# EAGLE library part XBEE (library IC & Transistor)
XBEE Module
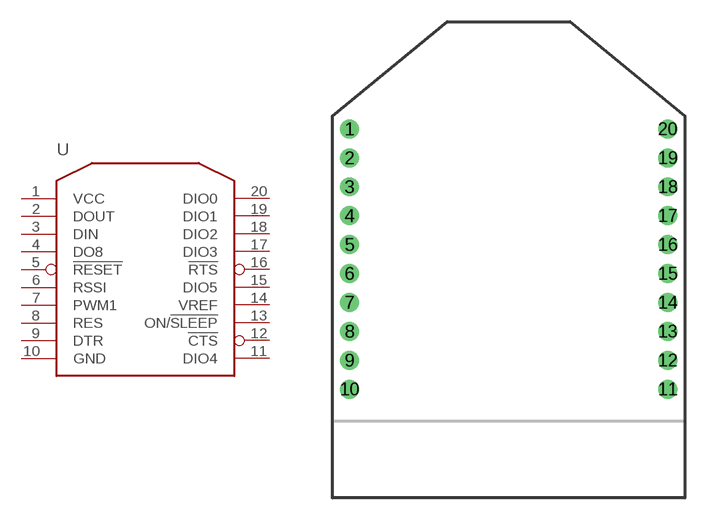
[diagram p15: symbol with the pads of XBEEPRO; footprint XBEEPRO]

Designator prefix U

## XBEE_(PRO) (CYTRON-PC: XBEE-PRO; DESC: XBee Pro Module; MF: DIGI)  [XBEEPRO]
1  VCC
2  DOUT
3  DIN
4  DO8
5  !RESET
6  RSSI
7  PWM1
8  RES
9  DTR
10  GND
11  DIO4
12  !CTS
13  ON/!SLEEP
14  VREF
15  DIO5
16  !RTS
17  DIO3
18  DIO2
19  DIO1
20  DIO0

## Footprint XBEEPRO (pad centres in mm)
XBEE/ XBEE PRO Module
drill 0.8 pad 1.27: 1 -11,9.1; 2 -11,7.1; 3 -11,5.1; 4 -11,3.1; 5 -11,1.1; 6 -11,-0.9; 7 -11,-2.9; 8 -11,-4.9; 9 -11,-6.9; 10 -11,-8.9; 11 11,-8.9; 12 11,-6.9; 13 11,-4.9; 14 11,-2.9; 15 11,-0.9; 16 11,1.1; 17 11,3.1; 18 11,5.1; 19 11,7.1; 20 11,9.1